# Altium schematic symbol library 贴片51.SchLib: 2 symbols
Pins are listed as number, name and electrical type; pins without a type are passive.

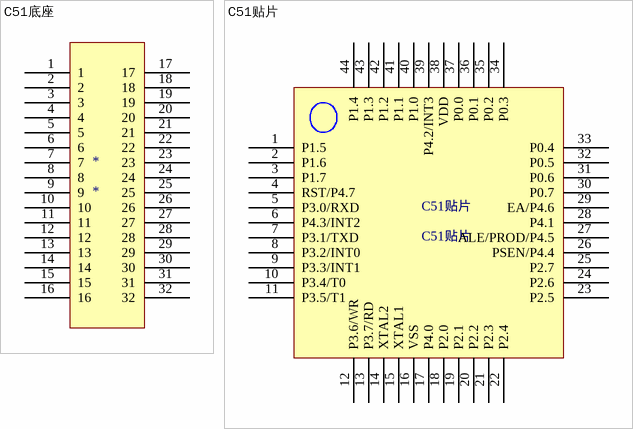
[diagram p0: symbols C51底座 to C51贴片]

## C51底座
designator *
footprint C51底座
pins: 1, 2, 3, 4, 5, 6, 7, 8, 9, 10, 11, 12, 13, 14, 15, 16, 17, 18, 19, 20, 21, 22, 23, 24, 25, 26, 27, 28, 29, 30, 31, 32

## C51贴片
designator C51贴片
pins: 1 P1.5, 2 P1.6, 3 P1.7, 4 RST/P4.7, 5 P3.0/RXD, 6 P4.3/INT2, 7 P3.1/TXD, 8 P3.2/INT0, 9 P3.3/INT1, 10 P3.4/T0, 11 P3.5/T1, 12 P3.6/WR, 13 P3.7/RD, 14 XTAL2, 15 XTAL1, 16 VSS, 17 P4.0, 18 P2.0, 19 P2.1, 20 P2.2, 21 P2.3, 22 P2.4, 23 P2.5, 24 P2.6, 25 P2.7, 26 PSEN/P4.4, 27 ALE/PROD/P4.5, 28 P4.1, 29 EA/P4.6, 30 P0.7, 31 P0.6, 32 P0.5, 33 P0.4, 34 P0.3, 35 P0.2, 36 P0.1, 37 P0.0, 38 VDD, 39 P4.2/INT3, 40 P1.0, 41 P1.1, 42 P1.2, 43 P1.3, 44 P1.4